# Altium footprint library WE-LHMI 8030.PcbLib: 1 footprints
Each footprint in its own frame and in the unit in brackets; x right, y up, seen from the top. Pads: shape width x height; smd on the part's side, far side on the other; paste and mask are expansions set on the pad; w line width, h text height; cw(c..) or ccw(c..) is an arc to the next point about the centre after c.
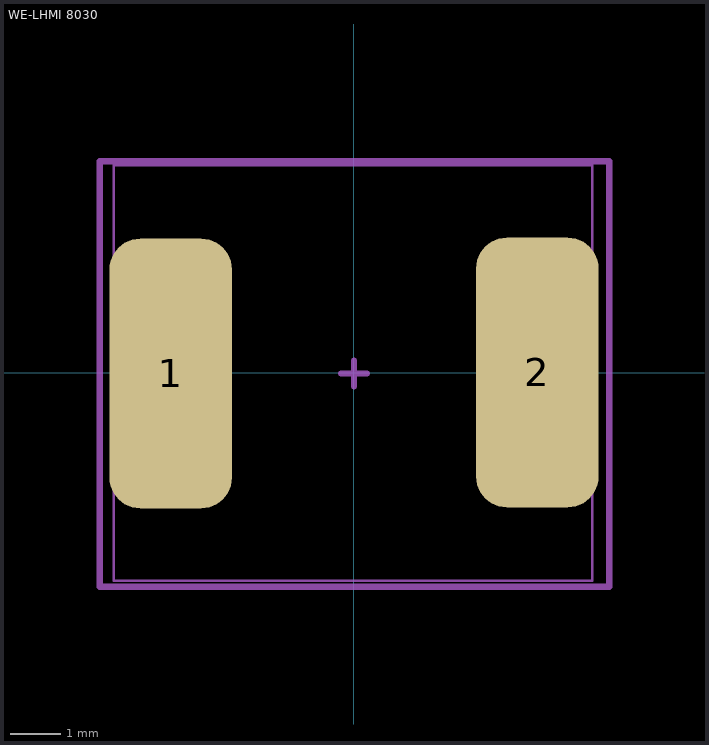
[diagram p0: the footprint, top view; thin cyan lines are the x and y axes]

## WE-LHMI 8030 [mm] "WE-LHMI Wurth Power Inductor"
pads (2):
  rrect50% 2.42x5.33 smd: 1(-3.62,-0.01) 2(3.62,0.01)
Mechanical 2:
  lines w0.051: -4.745,-4.1 -4.745,4.1 4.705,4.1 4.705,-4.1 -4.745,-4.1
Mechanical 4:
  lines w0.127: -0.254,-0.01 0.254,-0.01 ; 0,-0.264 0,0.244 ; -5.02,-4.22 -5.02,4.18 5.04,4.18 5.04,-4.22 -5.02,-4.22
3D body "STEP-WE-LHMI-8030-rev1.stp": height 2.95, standoff -0.05, extent -4.745,-4.1 4.705,4.1